# Altium schematic symbol library PA2754NL.SchLib: 1 symbol
Pins are listed as number, name and electrical type; pins without a type are passive.

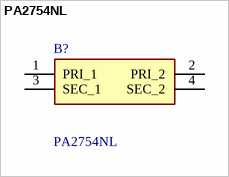
[diagram p0: symbol PA2754NL]

## PA2754NL
designator B?
Common Mode Chokes / Filters 3.75mOhms 215uH 10A SMD Toroid Choke; Manufacturer_Name: Yageo Group; Geometry.Height: 11.2mm; Mouser Part Number: 673-PA2754NL; Mouser Price/Stock: https://www.mouser.co.uk/ProductDetail/Pulse-Electronics/PA2754NL?qs=%252BUGZmmosPSIl0ME75doAGQ%3D%3D; Manufacturer_Part_Number: PA2754NL; Datasheet Link: https://www.digikey.ph/en/products/detail/pulse-electronics/PA2754NL/3025638
footprint PA2754NL
pins: 1 PRI_1, 2 PRI_2, 3 SEC_1, 4 SEC_2